# EAGLE library part MAX6032 (library aggiunte)
MCP6032 calendario e orologio I2C
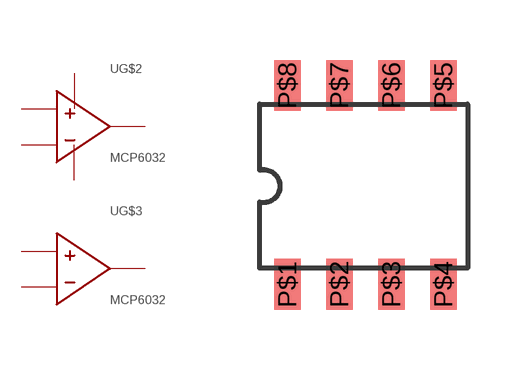
[diagram p8: symbol with the pads of MAX6032; footprint MAX6032]

Designator prefix -; gates G$1=ALIM1 G$2=MAX6032 G$3=MAX6032

## MAX6032  [MAX6032]
P$1  G$2:O  out
P$2  G$2:-  in
P$3  G$3:+  in
P$4  G$1:GND  pwr
P$5  G$2:+  in
P$6  G$3:-  in
P$7  G$3:O  out
P$8  G$1:VCC  pwr

## Footprint MAX6032 (pad centres in mm)
smd 0.66 x 1.27: P$1 0.3,0.6; P$2 1.6,0.6; P$3 2.9,0.6; P$4 4.2,0.6; P$5 4.2,5.57; P$6 2.9,5.57; P$7 1.6,5.57; P$8 0.3,5.57